# Altium integrated library FPGA Generic.IntLib: 1651 symbols (part 20 of 20)
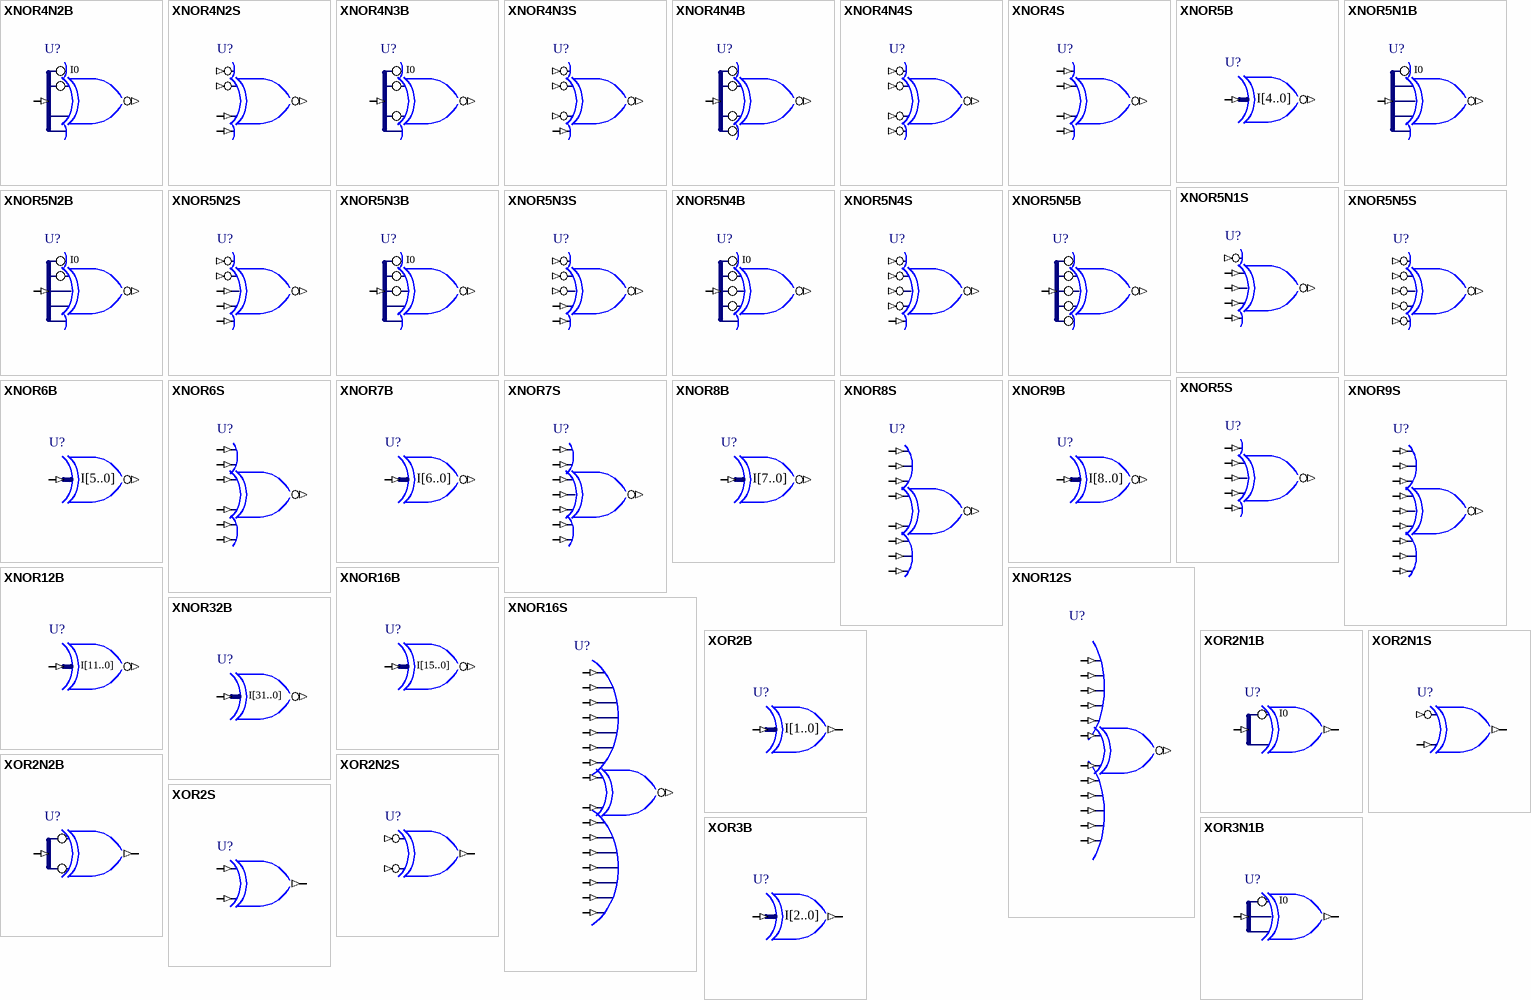
[diagram p62: symbols XNOR4N2B to XOR3N1B]

## XNOR5N5B
designator U?
5-Input Exclusive-NOR Gate with Active Low A, B, C, D and E Inputs, Bus Version; FunctionalClass: Logic Primitive; SubClass: XNOR; PortSize: 5; ArchiveName: GENERIC; VHDLIB_SIM: GENERIC_LIB; Published: 29-Jan-2004; Publisher: Altium Limited; LastRevisionNo: 1.00.00; HelpURL: CR0118 FPGA Generic Library Guide.pdf#page=445; ComponentLink1URL: CR0136 FPGA Logic Primitive Resource Usage.pdf#page=280; ComponentLink1Description: Core &Resource Usage; PortStyle: Bus Version
pins: I[4..0] (in), O (out)

## XNOR5N5S
designator U?
5-Input Exclusive-NOR Gate with Active Low A, B, C, D and E Inputs, Single Pin Version; XilinxEquivalent: XNOR5B5; FunctionalClass: Logic Primitive; SubClass: XNOR; PortSize: 5; ArchiveName: GENERIC; VHDLIB_SIM: GENERIC_LIB; Published: 29-Jan-2004; Publisher: Altium Limited; LastRevisionNo: 1.00.00; HelpURL: CR0118 FPGA Generic Library Guide.pdf#page=445; ComponentLink1URL: CR0136 FPGA Logic Primitive Resource Usage.pdf#page=281; ComponentLink1Description: Core &Resource Usage; PortStyle: Single Pin Version
pins: I0 (in), I1 (in), I2 (in), I3 (in), I4 (in), O (out)

## XNOR5S
designator U?
5-Input Exclusive-NOR Gate, Single Pin Version; XilinxEquivalent: XNOR5; FunctionalClass: Logic Primitive; SubClass: XNOR; PortSize: 5; ArchiveName: GENERIC; VHDLIB_SIM: GENERIC_LIB; Published: 29-Jan-2004; Publisher: Altium Limited; LastRevisionNo: 1.00.00; HelpURL: CR0118 FPGA Generic Library Guide.pdf#page=445; ComponentLink1URL: CR0136 FPGA Logic Primitive Resource Usage.pdf#page=282; ComponentLink1Description: Core &Resource Usage; PortStyle: Single Pin Version
pins: I0 (in), I1 (in), I2 (in), I3 (in), I4 (in), O (out)

## XNOR6B
designator U?
6-Input Exclusive-NOR Gate, Bus Version; FunctionalClass: Logic Primitive; SubClass: XNOR; PortSize: 6; ArchiveName: GENERIC; VHDLIB_SIM: GENERIC_LIB; Published: 29-Jan-2004; Publisher: Altium Limited; LastRevisionNo: 1.00.00; HelpURL: CR0118 FPGA Generic Library Guide.pdf#page=445; ComponentLink1URL: CR0136 FPGA Logic Primitive Resource Usage.pdf#page=283; ComponentLink1Description: Core &Resource Usage; PortStyle: Bus Version
pins: I[5..0] (in), O (out)

## XNOR6S
designator U?
6-Input Exclusive-NOR Gate, Single Pin Version; XilinxEquivalent: XNOR6; FunctionalClass: Logic Primitive; SubClass: XNOR; PortSize: 6; ArchiveName: GENERIC; VHDLIB_SIM: GENERIC_LIB; Published: 29-Jan-2004; Publisher: Altium Limited; LastRevisionNo: 1.00.00; HelpURL: CR0118 FPGA Generic Library Guide.pdf#page=445; ComponentLink1URL: CR0136 FPGA Logic Primitive Resource Usage.pdf#page=284; ComponentLink1Description: Core &Resource Usage; PortStyle: Single Pin Version
pins: I0 (in), I1 (in), I2 (in), I3 (in), I4 (in), I5 (in), O (out)

## XNOR7B
designator U?
7-Input Exclusive-NOR Gate, Bus Version; FunctionalClass: Logic Primitive; SubClass: XNOR; PortSize: 7; ArchiveName: GENERIC; VHDLIB_SIM: GENERIC_LIB; Published: 29-Jan-2004; Publisher: Altium Limited; LastRevisionNo: 1.00.00; HelpURL: CR0118 FPGA Generic Library Guide.pdf#page=445; ComponentLink1URL: CR0136 FPGA Logic Primitive Resource Usage.pdf#page=285; ComponentLink1Description: Core &Resource Usage; PortStyle: Bus Version
pins: I[6..0] (in), O (out)

## XNOR7S
designator U?
7-Input Exclusive-NOR Gate, Single Pin Version; XilinxEquivalent: XNOR7; FunctionalClass: Logic Primitive; SubClass: XNOR; PortSize: 7; ArchiveName: GENERIC; VHDLIB_SIM: GENERIC_LIB; Published: 29-Jan-2004; Publisher: Altium Limited; LastRevisionNo: 1.00.00; HelpURL: CR0118 FPGA Generic Library Guide.pdf#page=445; ComponentLink1URL: CR0136 FPGA Logic Primitive Resource Usage.pdf#page=286; ComponentLink1Description: Core &Resource Usage; PortStyle: Single Pin Version
pins: I0 (in), I1 (in), I2 (in), I3 (in), I4 (in), I5 (in), I6 (in), O (out)

## XNOR8B
designator U?
8-Input Exclusive-NOR Gate, Bus Version; FunctionalClass: Logic Primitive; SubClass: XNOR; PortSize: 8; ArchiveName: GENERIC; VHDLIB_SIM: GENERIC_LIB; Published: 29-Jan-2004; Publisher: Altium Limited; LastRevisionNo: 1.00.00; HelpURL: CR0118 FPGA Generic Library Guide.pdf#page=445; ComponentLink1URL: CR0136 FPGA Logic Primitive Resource Usage.pdf#page=287; ComponentLink1Description: Core &Resource Usage; PortStyle: Bus Version
pins: I[7..0] (in), O (out)

## XNOR8S
designator U?
8-Input Exclusive-NOR Gate, Single Pin Version; XilinxEquivalent: XNOR8; FunctionalClass: Logic Primitive; SubClass: XNOR; PortSize: 8; ArchiveName: GENERIC; VHDLIB_SIM: GENERIC_LIB; Published: 29-Jan-2004; Publisher: Altium Limited; LastRevisionNo: 1.00.00; HelpURL: CR0118 FPGA Generic Library Guide.pdf#page=445; ComponentLink1URL: CR0136 FPGA Logic Primitive Resource Usage.pdf#page=288; ComponentLink1Description: Core &Resource Usage; PortStyle: Single Pin Version
pins: I0 (in), I1 (in), I2 (in), I3 (in), I4 (in), I5 (in), I6 (in), I7 (in), O (out)

## XNOR9B
designator U?
9-Input Exclusive-NOR Gate, Bus Version; FunctionalClass: Logic Primitive; SubClass: XNOR; PortSize: 9; ArchiveName: GENERIC; VHDLIB_SIM: GENERIC_LIB; Published: 29-Jan-2004; Publisher: Altium Limited; LastRevisionNo: 1.00.00; HelpURL: CR0118 FPGA Generic Library Guide.pdf#page=445; ComponentLink1URL: CR0136 FPGA Logic Primitive Resource Usage.pdf#page=289; ComponentLink1Description: Core &Resource Usage; PortStyle: Bus Version
pins: I[8..0] (in), O (out)

## XNOR9S
designator U?
9-Input Exclusive-NOR Gate, Single Pin Version; XilinxEquivalent: XNOR9; FunctionalClass: Logic Primitive; SubClass: XNOR; PortSize: 9; ArchiveName: GENERIC; VHDLIB_SIM: GENERIC_LIB; Published: 29-Jan-2004; Publisher: Altium Limited; LastRevisionNo: 1.00.00; HelpURL: CR0118 FPGA Generic Library Guide.pdf#page=445; ComponentLink1URL: CR0136 FPGA Logic Primitive Resource Usage.pdf#page=290; ComponentLink1Description: Core &Resource Usage; PortStyle: Single Pin Version
pins: I0 (in), I1 (in), I2 (in), I3 (in), I4 (in), I5 (in), I6 (in), I7 (in), I8 (in), O (out)

## XNOR12B
designator U?
12-Input Exclusive-NOR Gate, Bus Version; FunctionalClass: Logic Primitive; SubClass: XNOR; PortSize: 12; ArchiveName: GENERIC; VHDLIB_SIM: GENERIC_LIB; Published: 29-Jan-2004; Publisher: Altium Limited; LastRevisionNo: 1.00.00; HelpURL: CR0118 FPGA Generic Library Guide.pdf#page=445; ComponentLink1URL: CR0136 FPGA Logic Primitive Resource Usage.pdf#page=291; ComponentLink1Description: Core &Resource Usage; PortStyle: Bus Version
pins: I[11..0] (in), O (out)

## XNOR12S
designator U?
12-Input Exclusive-NOR Gate, Single Pin Version; XilinxEquivalent: XNOR12; FunctionalClass: Logic Primitive; SubClass: XNOR; PortSize: 12; ArchiveName: GENERIC; VHDLIB_SIM: GENERIC_LIB; Published: 29-Jan-2004; Publisher: Altium Limited; LastRevisionNo: 1.00.00; HelpURL: CR0118 FPGA Generic Library Guide.pdf#page=445; ComponentLink1URL: CR0136 FPGA Logic Primitive Resource Usage.pdf#page=292; ComponentLink1Description: Core &Resource Usage; PortStyle: Single Pin Version
pins: I0 (in), I1 (in), I2 (in), I3 (in), I4 (in), I5 (in), I6 (in), I7 (in), I8 (in), I9 (in), I10 (in), I11 (in), O (out)

## XNOR16B
designator U?
16-Input Exclusive-NOR Gate, Bus Version; FunctionalClass: Logic Primitive; SubClass: XNOR; PortSize: 16; ArchiveName: GENERIC; VHDLIB_SIM: GENERIC_LIB; Published: 29-Jan-2004; Publisher: Altium Limited; LastRevisionNo: 1.00.00; HelpURL: CR0118 FPGA Generic Library Guide.pdf#page=445; ComponentLink1URL: CR0136 FPGA Logic Primitive Resource Usage.pdf#page=293; ComponentLink1Description: Core &Resource Usage; PortStyle: Bus Version
pins: I[15..0] (in), O (out)

## XNOR16S
designator U?
16-Input Exclusive-NOR Gate, Single Pin Version; XilinxEquivalent: XNOR16; FunctionalClass: Logic Primitive; SubClass: XNOR; PortSize: 16; ArchiveName: GENERIC; VHDLIB_SIM: GENERIC_LIB; Published: 29-Jan-2004; Publisher: Altium Limited; LastRevisionNo: 1.00.00; HelpURL: CR0118 FPGA Generic Library Guide.pdf#page=445; ComponentLink1URL: CR0136 FPGA Logic Primitive Resource Usage.pdf#page=294; ComponentLink1Description: Core &Resource Usage; PortStyle: Single Pin Version
pins: I0 (in), I1 (in), I2 (in), I3 (in), I4 (in), I5 (in), I6 (in), I7 (in), I8 (in), I9 (in), I10 (in), I11 (in), I12 (in), I13 (in), I14 (in), I15 (in), O (out)

## XNOR32B
designator U?
32-Input Exclusive-NOR Gate, Bus Version; FunctionalClass: Logic Primitive; SubClass: XNOR; PortSize: 32; ArchiveName: GENERIC; VHDLIB_SIM: GENERIC_LIB; Published: 29-Jan-2004; Publisher: Altium Limited; LastRevisionNo: 1.00.00; HelpURL: CR0118 FPGA Generic Library Guide.pdf#page=445; ComponentLink1URL: CR0136 FPGA Logic Primitive Resource Usage.pdf#page=295; ComponentLink1Description: Core &Resource Usage; PortStyle: Bus Version
pins: I[31..0] (in), O (out)

## XOR2B
designator U?
2-Input Exclusive-OR Gate, Bus Version; FunctionalClass: Logic Primitive; SubClass: XOR; PortSize: 2; ArchiveName: GENERIC; VHDLIB_SIM: GENERIC_LIB; Published: 29-Jan-2004; Publisher: Altium Limited; LastRevisionNo: 1.00.00; HelpURL: CR0118 FPGA Generic Library Guide.pdf#page=448; ComponentLink1URL: CR0136 FPGA Logic Primitive Resource Usage.pdf#page=296; ComponentLink1Description: Core &Resource Usage; PortStyle: Bus Version
pins: I[1..0] (in), O (out)

## XOR2N1B
designator U?
2-Input Exclusive-OR Gate with Active Low A Input, Bus Version; FunctionalClass: Logic Primitive; SubClass: XOR; PortSize: 2; ArchiveName: GENERIC; VHDLIB_SIM: GENERIC_LIB; Published: 29-Jan-2004; Publisher: Altium Limited; LastRevisionNo: 1.00.00; HelpURL: CR0118 FPGA Generic Library Guide.pdf#page=448; ComponentLink1URL: CR0136 FPGA Logic Primitive Resource Usage.pdf#page=297; ComponentLink1Description: Core &Resource Usage; PortStyle: Bus Version
pins: I[1..0] (in), O (out)
text: I0

## XOR2N1S
designator U?
2-Input Exclusive-OR Gate with Active Low A Input, Single Pin Version; XilinxEquivalent: XOR2B1; FunctionalClass: Logic Primitive; SubClass: XOR; PortSize: 2; ArchiveName: GENERIC; VHDLIB_SIM: GENERIC_LIB; Published: 29-Jan-2004; Publisher: Altium Limited; LastRevisionNo: 1.00.00; HelpURL: CR0118 FPGA Generic Library Guide.pdf#page=448; ComponentLink1URL: CR0136 FPGA Logic Primitive Resource Usage.pdf#page=298; ComponentLink1Description: Core &Resource Usage; PortStyle: Single Pin Version
pins: I0 (in), I1 (in), O (out)

## XOR2N2B
designator U?
2-Input Exclusive-OR Gate with Active Low A and B Inputs, Bus Version; FunctionalClass: Logic Primitive; SubClass: XOR; PortSize: 2; ArchiveName: GENERIC; VHDLIB_SIM: GENERIC_LIB; Published: 29-Jan-2004; Publisher: Altium Limited; LastRevisionNo: 1.00.00; HelpURL: CR0118 FPGA Generic Library Guide.pdf#page=448; ComponentLink1URL: CR0136 FPGA Logic Primitive Resource Usage.pdf#page=299; ComponentLink1Description: Core &Resource Usage; PortStyle: Bus Version
pins: I[1..0] (in), O (out)

## XOR2N2S
designator U?
2-Input Exclusive-OR Gate with Active Low A and B Inputs, Single Pin Version; XilinxEquivalent: XOR2B2; FunctionalClass: Logic Primitive; SubClass: XOR; PortSize: 2; ArchiveName: GENERIC; VHDLIB_SIM: GENERIC_LIB; Published: 29-Jan-2004; Publisher: Altium Limited; LastRevisionNo: 1.00.00; HelpURL: CR0118 FPGA Generic Library Guide.pdf#page=448; ComponentLink1URL: CR0136 FPGA Logic Primitive Resource Usage.pdf#page=300; ComponentLink1Description: Core &Resource Usage; PortStyle: Single Pin Version
pins: I0 (in), I1 (in), O (out)

## XOR2S
designator U?
2-Input Exclusive-OR Gate, Single Pin Version; XilinxEquivalent: XOR2; FunctionalClass: Logic Primitive; SubClass: XOR; PortSize: 2; ArchiveName: GENERIC; VHDLIB_SIM: GENERIC_LIB; Published: 29-Jan-2004; Publisher: Altium Limited; LastRevisionNo: 1.00.00; HelpURL: CR0118 FPGA Generic Library Guide.pdf#page=448; ComponentLink1URL: CR0136 FPGA Logic Primitive Resource Usage.pdf#page=301; ComponentLink1Description: Core &Resource Usage; PortStyle: Single Pin Version
pins: I0 (in), I1 (in), O (out)

## XOR3B
designator U?
3-Input Exclusive-OR Gate, Bus Version; FunctionalClass: Logic Primitive; SubClass: XOR; PortSize: 3; ArchiveName: GENERIC; VHDLIB_SIM: GENERIC_LIB; Published: 29-Jan-2004; Publisher: Altium Limited; LastRevisionNo: 1.00.00; HelpURL: CR0118 FPGA Generic Library Guide.pdf#page=448; ComponentLink1URL: CR0136 FPGA Logic Primitive Resource Usage.pdf#page=302; ComponentLink1Description: Core &Resource Usage; PortStyle: Bus Version
pins: I[2..0] (in), O (out)

## XOR3N1B
designator U?
3-Input Exclusive-OR Gate with Active Low A Input, Bus Version; FunctionalClass: Logic Primitive; SubClass: XOR; PortSize: 3; ArchiveName: GENERIC; VHDLIB_SIM: GENERIC_LIB; Published: 29-Jan-2004; Publisher: Altium Limited; LastRevisionNo: 1.00.00; HelpURL: CR0118 FPGA Generic Library Guide.pdf#page=448; ComponentLink1URL: CR0136 FPGA Logic Primitive Resource Usage.pdf#page=303; ComponentLink1Description: Core &Resource Usage; PortStyle: Bus Version
pins: I[2..0] (in), O (out)
text: I0

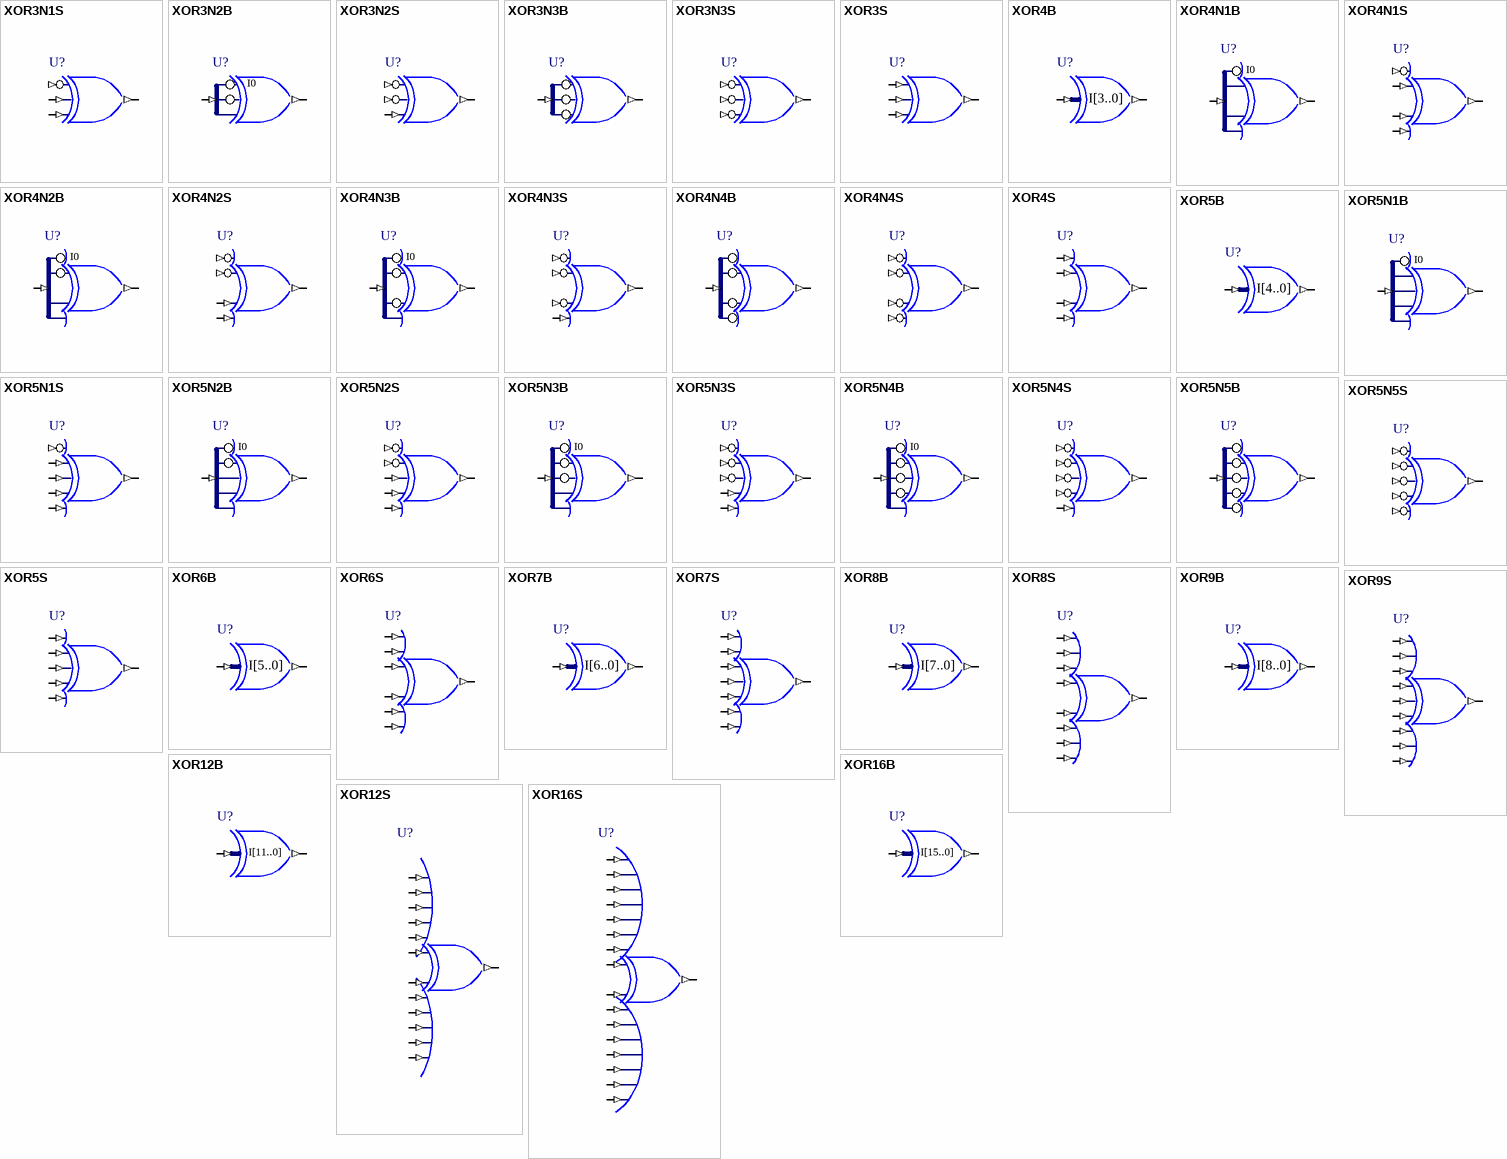
[diagram p42: symbols XOR3N1S to XOR16S]

## XOR3N1S
designator U?
3-Input Exclusive-OR Gate with Active Low A Input, Single Pin Version; XilinxEquivalent: XOR3B1; FunctionalClass: Logic Primitive; SubClass: XOR; PortSize: 3; ArchiveName: GENERIC; VHDLIB_SIM: GENERIC_LIB; Published: 29-Jan-2004; Publisher: Altium Limited; LastRevisionNo: 1.00.00; HelpURL: CR0118 FPGA Generic Library Guide.pdf#page=448; ComponentLink1URL: CR0136 FPGA Logic Primitive Resource Usage.pdf#page=304; ComponentLink1Description: Core &Resource Usage; PortStyle: Single Pin Version
pins: I0 (in), I1 (in), I2 (in), O (out)

## XOR3N2B
designator U?
3-Input Exclusive-OR Gate with Active Low A and B Inputs, Bus Version; FunctionalClass: Logic Primitive; SubClass: XOR; PortSize: 3; ArchiveName: GENERIC; VHDLIB_SIM: GENERIC_LIB; Published: 29-Jan-2004; Publisher: Altium Limited; LastRevisionNo: 1.00.00; HelpURL: CR0118 FPGA Generic Library Guide.pdf#page=448; ComponentLink1URL: CR0136 FPGA Logic Primitive Resource Usage.pdf#page=305; ComponentLink1Description: Core &Resource Usage; PortStyle: Bus Version
pins: I[2..0] (in), O (out)
text: I0

## XOR3N2S
designator U?
3-Input Exclusive-OR Gate with Active Low A and B Inputs, Single Pin Version; XilinxEquivalent: XOR3B2; FunctionalClass: Logic Primitive; SubClass: XOR; PortSize: 3; ArchiveName: GENERIC; VHDLIB_SIM: GENERIC_LIB; Published: 29-Jan-2004; Publisher: Altium Limited; LastRevisionNo: 1.00.00; HelpURL: CR0118 FPGA Generic Library Guide.pdf#page=448; ComponentLink1URL: CR0136 FPGA Logic Primitive Resource Usage.pdf#page=306; ComponentLink1Description: Core &Resource Usage; PortStyle: Single Pin Version
pins: I0 (in), I1 (in), I2 (in), O (out)

## XOR3N3B
designator U?
3-Input Exclusive-OR Gate with Active Low A, B and C Inputs, Bus Version; FunctionalClass: Logic Primitive; SubClass: XOR; PortSize: 3; ArchiveName: GENERIC; VHDLIB_SIM: GENERIC_LIB; Published: 29-Jan-2004; Publisher: Altium Limited; LastRevisionNo: 1.00.00; HelpURL: CR0118 FPGA Generic Library Guide.pdf#page=448; ComponentLink1URL: CR0136 FPGA Logic Primitive Resource Usage.pdf#page=307; ComponentLink1Description: Core &Resource Usage; PortStyle: Bus Version
pins: I[2..0] (in), O (out)

## XOR3N3S
designator U?
3-Input Exclusive-OR Gate with Active Low A, B and C Inputs, Single Pin Version; XilinxEquivalent: XOR3B3; FunctionalClass: Logic Primitive; SubClass: XOR; PortSize: 3; ArchiveName: GENERIC; VHDLIB_SIM: GENERIC_LIB; Published: 29-Jan-2004; Publisher: Altium Limited; LastRevisionNo: 1.00.00; HelpURL: CR0118 FPGA Generic Library Guide.pdf#page=448; ComponentLink1URL: CR0136 FPGA Logic Primitive Resource Usage.pdf#page=308; ComponentLink1Description: Core &Resource Usage; PortStyle: Single Pin Version
pins: I0 (in), I1 (in), I2 (in), O (out)

## XOR3S
designator U?
3-Input Exclusive-OR Gate, Single Pin Version; XilinxEquivalent: XOR3; FunctionalClass: Logic Primitive; SubClass: XOR; PortSize: 3; ArchiveName: GENERIC; VHDLIB_SIM: GENERIC_LIB; Published: 29-Jan-2004; Publisher: Altium Limited; LastRevisionNo: 1.00.00; HelpURL: CR0118 FPGA Generic Library Guide.pdf#page=448; ComponentLink1URL: CR0136 FPGA Logic Primitive Resource Usage.pdf#page=309; ComponentLink1Description: Core &Resource Usage; PortStyle: Single Pin Version
pins: I0 (in), I1 (in), I2 (in), O (out)

## XOR4B
designator U?
4-Input Exclusive-OR Gate, Bus Version; FunctionalClass: Logic Primitive; SubClass: XOR; PortSize: 4; ArchiveName: GENERIC; VHDLIB_SIM: GENERIC_LIB; Published: 29-Jan-2004; Publisher: Altium Limited; LastRevisionNo: 1.00.00; HelpURL: CR0118 FPGA Generic Library Guide.pdf#page=448; ComponentLink1URL: CR0136 FPGA Logic Primitive Resource Usage.pdf#page=310; ComponentLink1Description: Core &Resource Usage; PortStyle: Bus Version
pins: I[3..0] (in), O (out)

## XOR4N1B
designator U?
4-Input Exclusive-OR Gate with Active Low A Input, Bus Version; FunctionalClass: Logic Primitive; SubClass: XOR; PortSize: 4; ArchiveName: GENERIC; VHDLIB_SIM: GENERIC_LIB; Published: 29-Jan-2004; Publisher: Altium Limited; LastRevisionNo: 1.00.00; HelpURL: CR0118 FPGA Generic Library Guide.pdf#page=448; ComponentLink1URL: CR0136 FPGA Logic Primitive Resource Usage.pdf#page=311; ComponentLink1Description: Core &Resource Usage; PortStyle: Bus Version
pins: I[3..0] (in), O (out)
text: I0

## XOR4N1S
designator U?
4-Input Exclusive-OR Gate with Active Low A Input, Single Pin Version; XilinxEquivalent: XOR4B1; FunctionalClass: Logic Primitive; SubClass: XOR; PortSize: 4; ArchiveName: GENERIC; VHDLIB_SIM: GENERIC_LIB; Published: 29-Jan-2004; Publisher: Altium Limited; LastRevisionNo: 1.00.00; HelpURL: CR0118 FPGA Generic Library Guide.pdf#page=448; ComponentLink1URL: CR0136 FPGA Logic Primitive Resource Usage.pdf#page=312; ComponentLink1Description: Core &Resource Usage; PortStyle: Single Pin Version
pins: I0 (in), I1 (in), I2 (in), I3 (in), O (out)

## XOR4N2B
designator U?
4-Input Exclusive-OR Gate with Active Low A and B Inputs, Bus Version; FunctionalClass: Logic Primitive; SubClass: XOR; PortSize: 4; ArchiveName: GENERIC; VHDLIB_SIM: GENERIC_LIB; Published: 29-Jan-2004; Publisher: Altium Limited; LastRevisionNo: 1.00.00; HelpURL: CR0118 FPGA Generic Library Guide.pdf#page=448; ComponentLink1URL: CR0136 FPGA Logic Primitive Resource Usage.pdf#page=313; ComponentLink1Description: Core &Resource Usage; PortStyle: Bus Version
pins: I[3..0] (in), O (out)
text: I0

## XOR4N2S
designator U?
4-Input Exclusive-OR Gate with Active Low A and B Inputs, Single Pin Version; XilinxEquivalent: XOR4B2; FunctionalClass: Logic Primitive; SubClass: XOR; PortSize: 4; ArchiveName: GENERIC; VHDLIB_SIM: GENERIC_LIB; Published: 29-Jan-2004; Publisher: Altium Limited; LastRevisionNo: 1.00.00; HelpURL: CR0118 FPGA Generic Library Guide.pdf#page=448; ComponentLink1URL: CR0136 FPGA Logic Primitive Resource Usage.pdf#page=314; ComponentLink1Description: Core &Resource Usage; PortStyle: Single Pin Version
pins: I0 (in), I1 (in), I2 (in), I3 (in), O (out)

## XOR4N3B
designator U?
4-Input Exclusive-OR Gate with Active Low A, B and C Inputs, Bus Version; FunctionalClass: Logic Primitive; SubClass: XOR; PortSize: 4; ArchiveName: GENERIC; VHDLIB_SIM: GENERIC_LIB; Published: 29-Jan-2004; Publisher: Altium Limited; LastRevisionNo: 1.00.00; HelpURL: CR0118 FPGA Generic Library Guide.pdf#page=448; ComponentLink1URL: CR0136 FPGA Logic Primitive Resource Usage.pdf#page=315; ComponentLink1Description: Core &Resource Usage; PortStyle: Bus Version
pins: I[3..0] (in), O (out)
text: I0

## XOR4N3S
designator U?
4-Input Exclusive-OR Gate with Active Low A, B and C Inputs, Single Pin Version; XilinxEquivalent: XOR4B3; FunctionalClass: Logic Primitive; SubClass: XOR; PortSize: 4; ArchiveName: GENERIC; VHDLIB_SIM: GENERIC_LIB; Published: 29-Jan-2004; Publisher: Altium Limited; LastRevisionNo: 1.00.00; HelpURL: CR0118 FPGA Generic Library Guide.pdf#page=448; ComponentLink1URL: CR0136 FPGA Logic Primitive Resource Usage.pdf#page=316; ComponentLink1Description: Core &Resource Usage; PortStyle: Single Pin Version
pins: I0 (in), I1 (in), I2 (in), I3 (in), O (out)

## XOR4N4B
designator U?
4-Input Exclusive-OR Gate with Active Low A, B, C and D Inputs, Bus Version; FunctionalClass: Logic Primitive; SubClass: XOR; PortSize: 4; ArchiveName: GENERIC; VHDLIB_SIM: GENERIC_LIB; Published: 29-Jan-2004; Publisher: Altium Limited; LastRevisionNo: 1.00.00; HelpURL: CR0118 FPGA Generic Library Guide.pdf#page=448; ComponentLink1URL: CR0136 FPGA Logic Primitive Resource Usage.pdf#page=317; ComponentLink1Description: Core &Resource Usage; PortStyle: Bus Version
pins: I[3..0] (in), O (out)

## XOR4N4S
designator U?
4-Input Exclusive-OR Gate with Active Low A, B, C and D Inputs, Single Pin Version; XilinxEquivalent: XOR4B4; FunctionalClass: Logic Primitive; SubClass: XOR; PortSize: 4; ArchiveName: GENERIC; VHDLIB_SIM: GENERIC_LIB; Published: 29-Jan-2004; Publisher: Altium Limited; LastRevisionNo: 1.00.00; HelpURL: CR0118 FPGA Generic Library Guide.pdf#page=448; ComponentLink1URL: CR0136 FPGA Logic Primitive Resource Usage.pdf#page=318; ComponentLink1Description: Core &Resource Usage; PortStyle: Single Pin Version
pins: I0 (in), I1 (in), I2 (in), I3 (in), O (out)

## XOR4S
designator U?
4-Input Exclusive-OR Gate, Single Pin Version; XilinxEquivalent: XOR4; FunctionalClass: Logic Primitive; SubClass: XOR; PortSize: 4; ArchiveName: GENERIC; VHDLIB_SIM: GENERIC_LIB; Published: 29-Jan-2004; Publisher: Altium Limited; LastRevisionNo: 1.00.00; HelpURL: CR0118 FPGA Generic Library Guide.pdf#page=448; ComponentLink1URL: CR0136 FPGA Logic Primitive Resource Usage.pdf#page=319; ComponentLink1Description: Core &Resource Usage; PortStyle: Single Pin Version
pins: I0 (in), I1 (in), I2 (in), I3 (in), O (out)

## XOR5B
designator U?
5-Input Exclusive-OR Gate, Bus Version; FunctionalClass: Logic Primitive; SubClass: XOR; PortSize: 5; ArchiveName: GENERIC; VHDLIB_SIM: GENERIC_LIB; Published: 29-Jan-2004; Publisher: Altium Limited; LastRevisionNo: 1.00.00; HelpURL: CR0118 FPGA Generic Library Guide.pdf#page=448; ComponentLink1URL: CR0136 FPGA Logic Primitive Resource Usage.pdf#page=320; ComponentLink1Description: Core &Resource Usage; PortStyle: Bus Version
pins: I[4..0] (in), O (out)

## XOR5N1B
designator U?
5-Input Exclusive-OR Gate with Active Low A Input, Bus Version; FunctionalClass: Logic Primitive; SubClass: XOR; PortSize: 5; ArchiveName: GENERIC; VHDLIB_SIM: GENERIC_LIB; Published: 29-Jan-2004; Publisher: Altium Limited; LastRevisionNo: 1.00.00; HelpURL: CR0118 FPGA Generic Library Guide.pdf#page=448; ComponentLink1URL: CR0136 FPGA Logic Primitive Resource Usage.pdf#page=321; ComponentLink1Description: Core &Resource Usage; PortStyle: Bus Version
pins: I[4..0] (in), O (out)
text: I0

## XOR5N1S
designator U?
5-Input Exclusive-OR Gate with Active Low A Input, Single Pin Version; XilinxEquivalent: XOR5B1; FunctionalClass: Logic Primitive; SubClass: XOR; PortSize: 5; ArchiveName: GENERIC; VHDLIB_SIM: GENERIC_LIB; Published: 29-Jan-2004; Publisher: Altium Limited; LastRevisionNo: 1.00.00; HelpURL: CR0118 FPGA Generic Library Guide.pdf#page=448; ComponentLink1URL: CR0136 FPGA Logic Primitive Resource Usage.pdf#page=322; ComponentLink1Description: Core &Resource Usage; PortStyle: Single Pin Version
pins: I0 (in), I1 (in), I2 (in), I3 (in), I4 (in), O (out)

## XOR5N2B
designator U?
5-Input Exclusive-OR Gate with Active Low A and B Inputs, Bus Version; FunctionalClass: Logic Primitive; SubClass: XOR; PortSize: 5; ArchiveName: GENERIC; VHDLIB_SIM: GENERIC_LIB; Published: 29-Jan-2004; Publisher: Altium Limited; LastRevisionNo: 1.00.00; HelpURL: CR0118 FPGA Generic Library Guide.pdf#page=448; ComponentLink1URL: CR0136 FPGA Logic Primitive Resource Usage.pdf#page=323; ComponentLink1Description: Core &Resource Usage; PortStyle: Bus Version
pins: I[4..0] (in), O (out)
text: I0

## XOR5N2S
designator U?
5-Input Exclusive-OR Gate with Active Low A and B Inputs, Single Pin Version; XilinxEquivalent: XOR5B2; FunctionalClass: Logic Primitive; SubClass: XOR; PortSize: 5; ArchiveName: GENERIC; VHDLIB_SIM: GENERIC_LIB; Published: 29-Jan-2004; Publisher: Altium Limited; LastRevisionNo: 1.00.00; HelpURL: CR0118 FPGA Generic Library Guide.pdf#page=448; ComponentLink1URL: CR0136 FPGA Logic Primitive Resource Usage.pdf#page=324; ComponentLink1Description: Core &Resource Usage; PortStyle: Single Pin Version
pins: I0 (in), I1 (in), I2 (in), I3 (in), I4 (in), O (out)

## XOR5N3B
designator U?
5-Input Exclusive-OR Gate with Active Low A, B and C Inputs, Bus Version; FunctionalClass: Logic Primitive; SubClass: XOR; PortSize: 5; ArchiveName: GENERIC; VHDLIB_SIM: GENERIC_LIB; Published: 29-Jan-2004; Publisher: Altium Limited; LastRevisionNo: 1.00.00; HelpURL: CR0118 FPGA Generic Library Guide.pdf#page=448; ComponentLink1URL: CR0136 FPGA Logic Primitive Resource Usage.pdf#page=325; ComponentLink1Description: Core &Resource Usage; PortStyle: Bus Version
pins: I[4..0] (in), O (out)
text: I0

## XOR5N3S
designator U?
5-Input Exclusive-OR Gate with Active Low A, B and C Inputs, Single Pin Version; XilinxEquivalent: XOR5B3; FunctionalClass: Logic Primitive; SubClass: XOR; PortSize: 5; ArchiveName: GENERIC; VHDLIB_SIM: GENERIC_LIB; Published: 29-Jan-2004; Publisher: Altium Limited; LastRevisionNo: 1.00.00; HelpURL: CR0118 FPGA Generic Library Guide.pdf#page=448; ComponentLink1URL: CR0136 FPGA Logic Primitive Resource Usage.pdf#page=326; ComponentLink1Description: Core &Resource Usage; PortStyle: Single Pin Version
pins: I0 (in), I1 (in), I2 (in), I3 (in), I4 (in), O (out)

## XOR5N4B
designator U?
5-Input Exclusive-OR Gate with Active Low A, B, C and D Inputs, Bus Version; FunctionalClass: Logic Primitive; SubClass: XOR; PortSize: 5; ArchiveName: GENERIC; VHDLIB_SIM: GENERIC_LIB; Published: 29-Jan-2004; Publisher: Altium Limited; LastRevisionNo: 1.00.00; HelpURL: CR0118 FPGA Generic Library Guide.pdf#page=448; ComponentLink1URL: CR0136 FPGA Logic Primitive Resource Usage.pdf#page=327; ComponentLink1Description: Core &Resource Usage; PortStyle: Bus Version
pins: I[4..0] (in), O (out)
text: I0

## XOR5N4S
designator U?
5-Input Exclusive-OR Gate with Active Low A, B, C and D Inputs, Single Pin Version; XilinxEquivalent: XOR5B4; FunctionalClass: Logic Primitive; SubClass: XOR; PortSize: 5; ArchiveName: GENERIC; VHDLIB_SIM: GENERIC_LIB; Published: 29-Jan-2004; Publisher: Altium Limited; LastRevisionNo: 1.00.00; HelpURL: CR0118 FPGA Generic Library Guide.pdf#page=448; ComponentLink1URL: CR0136 FPGA Logic Primitive Resource Usage.pdf#page=328; ComponentLink1Description: Core &Resource Usage; PortStyle: Single Pin Version
pins: I0 (in), I1 (in), I2 (in), I3 (in), I4 (in), O (out)

## XOR5N5B
designator U?
5-Input Exclusive-OR Gate with Active Low A, B, C, D and E Inputs, Bus Version; FunctionalClass: Logic Primitive; SubClass: XOR; PortSize: 5; ArchiveName: GENERIC; VHDLIB_SIM: GENERIC_LIB; Published: 29-Jan-2004; Publisher: Altium Limited; LastRevisionNo: 1.00.00; HelpURL: CR0118 FPGA Generic Library Guide.pdf#page=448; ComponentLink1URL: CR0136 FPGA Logic Primitive Resource Usage.pdf#page=329; ComponentLink1Description: Core &Resource Usage; PortStyle: Bus Version
pins: I[4..0] (in), O (out)

## XOR5N5S
designator U?
5-Input Exclusive-OR Gate with Active Low A, B, C, D and E Inputs, Single Pin Version; XilinxEquivalent: XOR5B5; FunctionalClass: Logic Primitive; SubClass: XOR; PortSize: 5; ArchiveName: GENERIC; VHDLIB_SIM: GENERIC_LIB; Published: 29-Jan-2004; Publisher: Altium Limited; LastRevisionNo: 1.00.00; HelpURL: CR0118 FPGA Generic Library Guide.pdf#page=448; ComponentLink1URL: CR0136 FPGA Logic Primitive Resource Usage.pdf#page=330; ComponentLink1Description: Core &Resource Usage; PortStyle: Single Pin Version
pins: I0 (in), I1 (in), I2 (in), I3 (in), I4 (in), O (out)

## XOR5S
designator U?
5-Input Exclusive-OR Gate, Single Pin Version; XilinxEquivalent: XOR5; FunctionalClass: Logic Primitive; SubClass: XOR; PortSize: 5; ArchiveName: GENERIC; VHDLIB_SIM: GENERIC_LIB; Published: 29-Jan-2004; Publisher: Altium Limited; LastRevisionNo: 1.00.00; HelpURL: CR0118 FPGA Generic Library Guide.pdf#page=448; ComponentLink1URL: CR0136 FPGA Logic Primitive Resource Usage.pdf#page=331; ComponentLink1Description: Core &Resource Usage; PortStyle: Single Pin Version
pins: I0 (in), I1 (in), I2 (in), I3 (in), I4 (in), O (out)

## XOR6B
designator U?
6-Input Exclusive-OR Gate, Bus Version; FunctionalClass: Logic Primitive; SubClass: XOR; PortSize: 6; ArchiveName: GENERIC; VHDLIB_SIM: GENERIC_LIB; Published: 29-Jan-2004; Publisher: Altium Limited; LastRevisionNo: 1.00.00; HelpURL: CR0118 FPGA Generic Library Guide.pdf#page=448; ComponentLink1URL: CR0136 FPGA Logic Primitive Resource Usage.pdf#page=332; ComponentLink1Description: Core &Resource Usage; PortStyle: Bus Version
pins: I[5..0] (in), O (out)

## XOR6S
designator U?
6-Input Exclusive-OR Gate, Single Pin Version; XilinxEquivalent: XOR6; FunctionalClass: Logic Primitive; SubClass: XOR; PortSize: 6; ArchiveName: GENERIC; VHDLIB_SIM: GENERIC_LIB; Published: 29-Jan-2004; Publisher: Altium Limited; LastRevisionNo: 1.00.00; HelpURL: CR0118 FPGA Generic Library Guide.pdf#page=448; ComponentLink1URL: CR0136 FPGA Logic Primitive Resource Usage.pdf#page=333; ComponentLink1Description: Core &Resource Usage; PortStyle: Single Pin Version
pins: I0 (in), I1 (in), I2 (in), I3 (in), I4 (in), I5 (in), O (out)

## XOR7B
designator U?
7-Input Exclusive-OR Gate, Bus Version; FunctionalClass: Logic Primitive; SubClass: XOR; PortSize: 7; ArchiveName: GENERIC; VHDLIB_SIM: GENERIC_LIB; Published: 29-Jan-2004; Publisher: Altium Limited; LastRevisionNo: 1.00.00; HelpURL: CR0118 FPGA Generic Library Guide.pdf#page=448; ComponentLink1URL: CR0136 FPGA Logic Primitive Resource Usage.pdf#page=334; ComponentLink1Description: Core &Resource Usage; PortStyle: Bus Version
pins: I[6..0] (in), O (out)

## XOR7S
designator U?
7-Input Exclusive-OR Gate, Single Pin Version; XilinxEquivalent: XOR7; FunctionalClass: Logic Primitive; SubClass: XOR; PortSize: 7; ArchiveName: GENERIC; VHDLIB_SIM: GENERIC_LIB; Published: 29-Jan-2004; Publisher: Altium Limited; LastRevisionNo: 1.00.00; HelpURL: CR0118 FPGA Generic Library Guide.pdf#page=448; ComponentLink1URL: CR0136 FPGA Logic Primitive Resource Usage.pdf#page=335; ComponentLink1Description: Core &Resource Usage; PortStyle: Single Pin Version
pins: I0 (in), I1 (in), I2 (in), I3 (in), I4 (in), I5 (in), I6 (in), O (out)

## XOR8B
designator U?
8-Input Exclusive-OR Gate, Bus Version; FunctionalClass: Logic Primitive; SubClass: XOR; PortSize: 8; ArchiveName: GENERIC; VHDLIB_SIM: GENERIC_LIB; Published: 29-Jan-2004; Publisher: Altium Limited; LastRevisionNo: 1.00.00; HelpURL: CR0118 FPGA Generic Library Guide.pdf#page=448; ComponentLink1URL: CR0136 FPGA Logic Primitive Resource Usage.pdf#page=336; ComponentLink1Description: Core &Resource Usage; PortStyle: Bus Version
pins: I[7..0] (in), O (out)

## XOR8S
designator U?
8-Input Exclusive-OR Gate, Single Pin Version; XilinxEquivalent: XOR8; FunctionalClass: Logic Primitive; SubClass: XOR; PortSize: 8; ArchiveName: GENERIC; VHDLIB_SIM: GENERIC_LIB; Published: 29-Jan-2004; Publisher: Altium Limited; LastRevisionNo: 1.00.00; HelpURL: CR0118 FPGA Generic Library Guide.pdf#page=448; ComponentLink1URL: CR0136 FPGA Logic Primitive Resource Usage.pdf#page=337; ComponentLink1Description: Core &Resource Usage; PortStyle: Single Pin Version
pins: I0 (in), I1 (in), I2 (in), I3 (in), I4 (in), I5 (in), I6 (in), I7 (in), O (out)

## XOR9B
designator U?
9-Input Exclusive-OR Gate, Bus Version; FunctionalClass: Logic Primitive; SubClass: XOR; PortSize: 9; ArchiveName: GENERIC; VHDLIB_SIM: GENERIC_LIB; Published: 29-Jan-2004; Publisher: Altium Limited; LastRevisionNo: 1.00.00; HelpURL: CR0118 FPGA Generic Library Guide.pdf#page=448; ComponentLink1URL: CR0136 FPGA Logic Primitive Resource Usage.pdf#page=338; ComponentLink1Description: Core &Resource Usage; PortStyle: Bus Version
pins: I[8..0] (in), O (out)

## XOR9S
designator U?
9-Input Exclusive-OR Gate, Single Pin Version; XilinxEquivalent: XOR9; FunctionalClass: Logic Primitive; SubClass: XOR; PortSize: 9; ArchiveName: GENERIC; VHDLIB_SIM: GENERIC_LIB; Published: 29-Jan-2004; Publisher: Altium Limited; LastRevisionNo: 1.00.00; HelpURL: CR0118 FPGA Generic Library Guide.pdf#page=448; ComponentLink1URL: CR0136 FPGA Logic Primitive Resource Usage.pdf#page=339; ComponentLink1Description: Core &Resource Usage; PortStyle: Single Pin Version
pins: I0 (in), I1 (in), I2 (in), I3 (in), I4 (in), I5 (in), I6 (in), I7 (in), I8 (in), O (out)

## XOR12B
designator U?
12-Input Exclusive-OR Gate, Bus Version; FunctionalClass: Logic Primitive; SubClass: XOR; PortSize: 12; ArchiveName: GENERIC; VHDLIB_SIM: GENERIC_LIB; Published: 29-Jan-2004; Publisher: Altium Limited; LastRevisionNo: 1.00.00; HelpURL: CR0118 FPGA Generic Library Guide.pdf#page=448; ComponentLink1URL: CR0136 FPGA Logic Primitive Resource Usage.pdf#page=340; ComponentLink1Description: Core &Resource Usage; PortStyle: Bus Version
pins: I[11..0] (in), O (out)

## XOR12S
designator U?
12-Input Exclusive-OR Gate, Single Pin Version; XilinxEquivalent: XOR12; FunctionalClass: Logic Primitive; SubClass: XOR; PortSize: 12; ArchiveName: GENERIC; VHDLIB_SIM: GENERIC_LIB; Published: 29-Jan-2004; Publisher: Altium Limited; LastRevisionNo: 1.00.00; HelpURL: CR0118 FPGA Generic Library Guide.pdf#page=448; ComponentLink1URL: CR0136 FPGA Logic Primitive Resource Usage.pdf#page=341; ComponentLink1Description: Core &Resource Usage; PortStyle: Single Pin Version
pins: I0 (in), I1 (in), I2 (in), I3 (in), I4 (in), I5 (in), I6 (in), I7 (in), I8 (in), I9 (in), I10 (in), I11 (in), O (out)

## XOR16B
designator U?
16-Input Exclusive-OR Gate, Bus Version; FunctionalClass: Logic Primitive; SubClass: XOR; PortSize: 16; ArchiveName: GENERIC; VHDLIB_SIM: GENERIC_LIB; Published: 29-Jan-2004; Publisher: Altium Limited; LastRevisionNo: 1.00.00; HelpURL: CR0118 FPGA Generic Library Guide.pdf#page=448; ComponentLink1URL: CR0136 FPGA Logic Primitive Resource Usage.pdf#page=342; ComponentLink1Description: Core &Resource Usage; PortStyle: Bus Version
pins: I[15..0] (in), O (out)

## XOR16S
designator U?
16-Input Exclusive-OR Gate, Single Pin Version; XilinxEquivalent: XOR16; FunctionalClass: Logic Primitive; SubClass: XOR; PortSize: 16; ArchiveName: GENERIC; VHDLIB_SIM: GENERIC_LIB; Published: 29-Jan-2004; Publisher: Altium Limited; LastRevisionNo: 1.00.00; HelpURL: CR0118 FPGA Generic Library Guide.pdf#page=448; ComponentLink1URL: CR0136 FPGA Logic Primitive Resource Usage.pdf#page=343; ComponentLink1Description: Core &Resource Usage; PortStyle: Single Pin Version
pins: I0 (in), I1 (in), I2 (in), I3 (in), I4 (in), I5 (in), I6 (in), I7 (in), I8 (in), I9 (in), I10 (in), I11 (in), I12 (in), I13 (in), I14 (in), I15 (in), O (out)

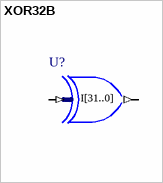
[diagram p43: symbol XOR32B]

## XOR32B
designator U?
32-Input Exclusive-OR Gate, Bus Version; FunctionalClass: Logic Primitive; SubClass: XOR; PortSize: 32; ArchiveName: GENERIC; VHDLIB_SIM: GENERIC_LIB; Published: 29-Jan-2004; Publisher: Altium Limited; LastRevisionNo: 1.00.00; HelpURL: CR0118 FPGA Generic Library Guide.pdf#page=448; ComponentLink1URL: CR0136 FPGA Logic Primitive Resource Usage.pdf#page=344; ComponentLink1Description: Core &Resource Usage; PortStyle: Bus Version
pins: I[31..0] (in), O (out)